# Altium footprint library Imperial_Thru_Hole.PcbLib: 76 footprints (part 2 of 5)
Each footprint in its own frame and in the unit in brackets; x right, y up, seen from the top. Pads: shape width x height; smd on the part's side, far side on the other; paste and mask are expansions set on the pad; w line width, h text height; cw(c..) or ccw(c..) is an arc to the next point about the centre after c.
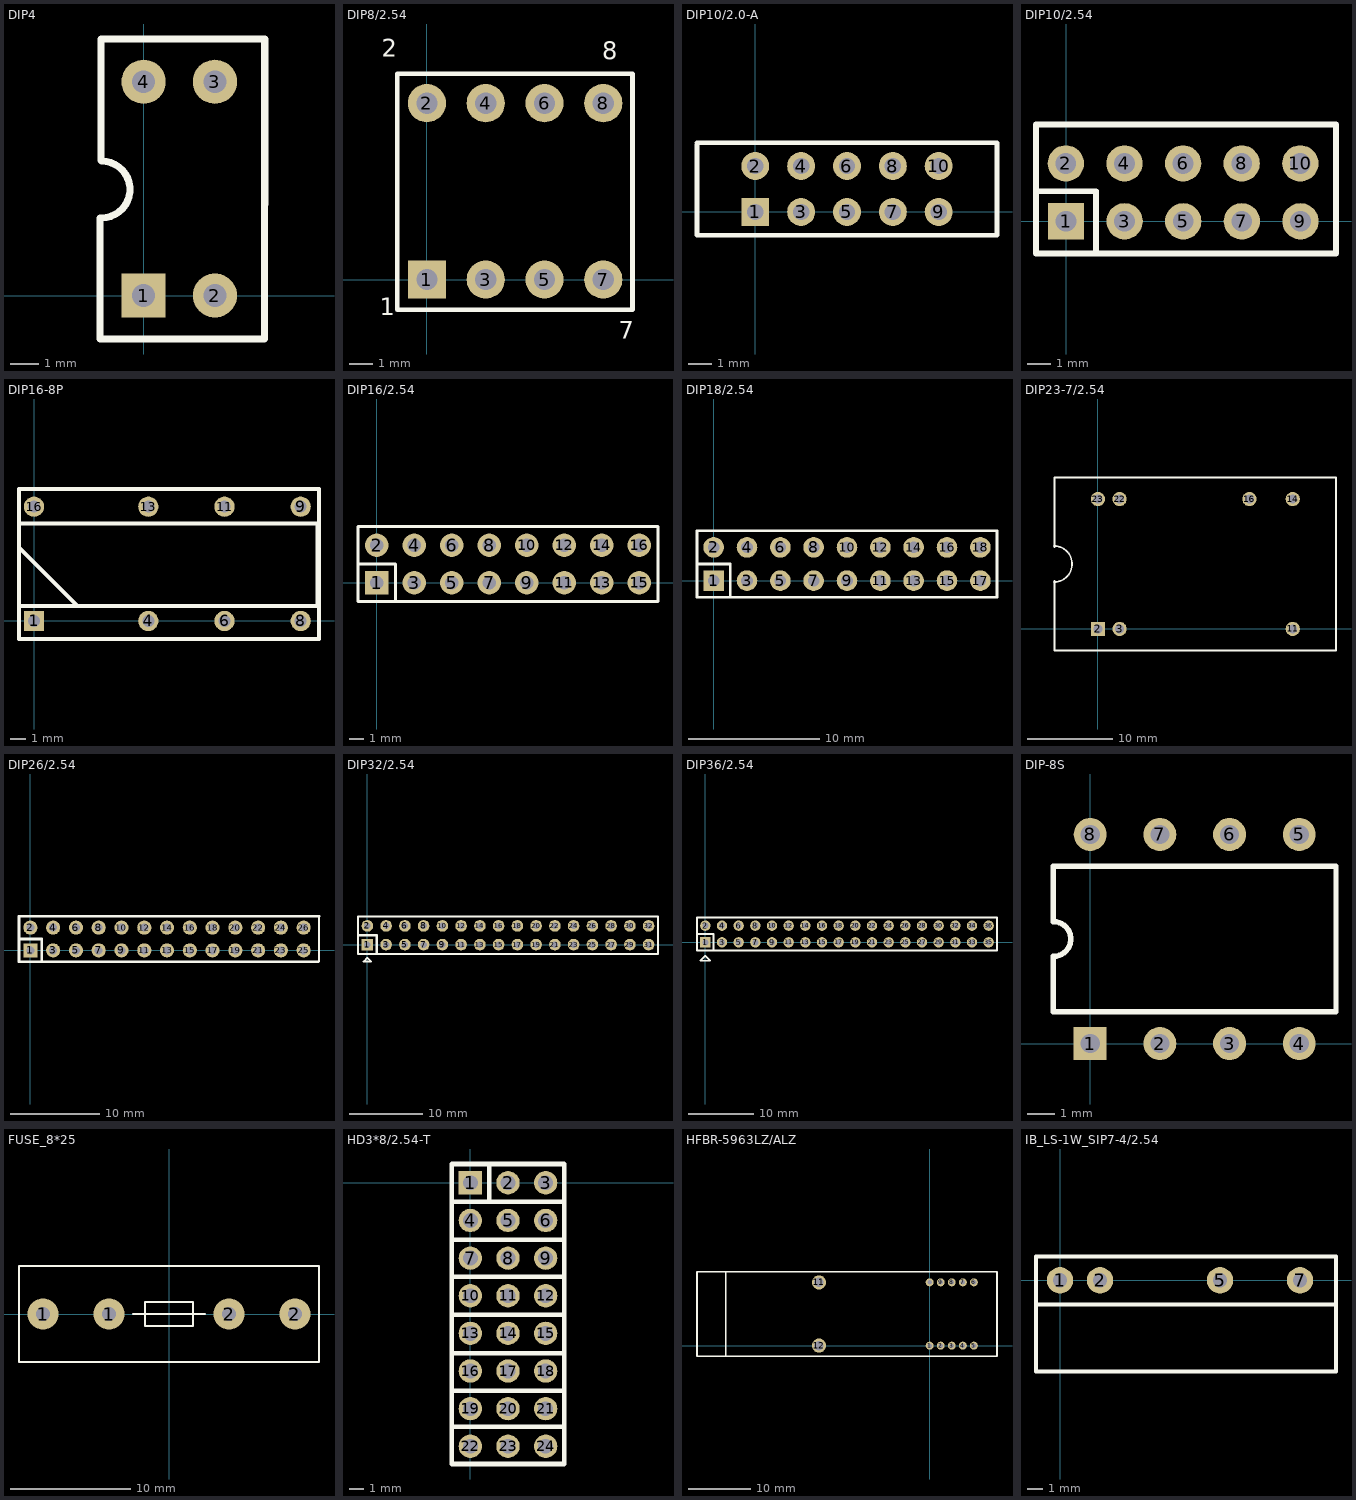
[diagram p1: the footprints below, top view; thin cyan lines are the x and y axes]

## DIP4 [mil]
height 200
pads (4):
  rect 62x62 hole 32: 1(0,0)
  round 62 hole 32: 2(100,0) 3(100,300) 4(0,300)
Top Overlay:
  lines w10: -61,109 -61,-61 169.59,-61 169.59,128.41 170,128 170,360 -60,360 -60,189.7 ; -59,109 ccw(c-59,148.85) -59,188.7

## DIP8/2.54 [mil]
pads (8):
  rect 65x65 hole 36: 1(0,0)
  round 65 hole 36: 2(0,300) 3(100,0) 4(100,300) 5(200,0) 6(200,300) 7(300,0) 8(300,300)
Top Overlay:
  lines w7.87: -50.39,-51.57 -50.39,350 349.61,350 349.61,-51.57 -50.39,-51.57
  text "8" at 298.43,374.29 h30
  text "7" at 325.98,-101.1 h30
  text "1" at -80.16,-60.83 h30
  text "2" at -77.2,379.13 h30

## DIP10/2.0-A [mil]
pads (10):
  rect 48x48 hole 28: 1(0,0)
  round 47.99 hole 27.99: 2(0,78.74)
  round 48 hole 28: 3(78.74,0) 4(78.74,78.74) 5(157.48,0) 6(157.48,78.74) 7(236.22,0) 8(236.22,78.74) 9(314.96,0) 10(314.96,78.74)
Top Overlay:
  lines w8: -100,115 -100,-40 414.96,-40 ; -100,118.74 415,118.74 415,-40
3D body: height 209.5, standoff -209.5, extent -100,-40 415,118.74

## DIP10/2.54 [mil] "2.54间距插针, 焊盘:外径1.57mm.孔径0.9mm"
height 314.96
pads (10):
  rect 62x62 hole 35.43: 1(0,0)
  round 62 hole 35.43: 2(-0.25,98.75) 3(100,0) 4(99.75,98.75) 5(200,0) 6(199.75,98.75) 7(300,0) 8(299.75,98.75) 9(400,0) 10(399.75,98.75)
Top Overlay:
  lines w10: -51.18,51.18 51.18,51.18 51.18,-55.12 ; -51.18,-55.12 -51.18,165.35 460.63,165.35 460.63,-55.12 -51.18,-55.12
3D body: height 220, standoff 20, extent -9.92,90.02 10,109.98
3D body: height 40, standoff 0, extent -50,50 49.61,149.8
3D body: height 40, standoff 0, extent 50,50 149.61,149.8
3D body: height 220, standoff 20, extent 90.08,90.02 110,109.98
3D body: height 40, standoff 0, extent 150,50 249.61,149.8
3D body: height 220, standoff 20, extent 190.08,90.02 210,109.98
3D body: height 40, standoff 0, extent 250,50 349.61,149.8
3D body: height 220, standoff 20, extent 290.08,90.02 310,109.98
3D body: height 40, standoff 0, extent 350,50 449.61,149.8
3D body: height 220, standoff 20, extent 390.08,90.02 410,109.98
3D body: height 40, standoff 0, extent 350,-50 449.61,49.8
3D body: height 220, standoff 20, extent 390.08,-9.98 410,9.98
3D body: height 40, standoff 0, extent 250,-50 349.61,49.8
3D body: height 220, standoff 20, extent 290.08,-9.98 310,9.98
3D body: height 40, standoff 0, extent 150,-50 249.61,49.8
3D body: height 220, standoff 20, extent 190.08,-9.98 210,9.98
3D body: height 40, standoff 0, extent 50,-50 149.61,49.8
3D body: height 220, standoff 20, extent 90.08,-9.98 110,9.98
3D body: height 40, standoff 0, extent -50,-50 49.61,49.8
3D body: height 220, standoff 20, extent -9.92,-9.98 10,9.98

## DIP16-8P [mm] "DIP16，8脚欧姆龙继电器"
height 5.08
pads (8):
  rect 1.35x1.35 hole 0.8: 1(0,0)
  round 1.35 hole 0.8: 4(7.62,0) 6(12.7,0) 8(17.78,0) 9(17.78,7.62) 11(12.7,7.62) 13(7.62,7.62) 16(0,7.62)
Top Overlay:
  lines w0.254: -1,4.9 2.9,1 ; -1,-1.2 -1,8.8 19,8.8 19,-1.2 -1,-1.2 ; -1,1 18.9,1 18.9,6.5 -1,6.5 -1,1

## DIP16/2.54 [mil] "2.54间距插针, 焊盘:外径1.57mm.孔径0.9mm"
height 314.96
pads (16):
  rect 62x62 hole 35.43: 1(0,0)
  round 62 hole 35.43: 2(0,100) 3(100,0) 4(100,100) 5(200,0) 6(200,100) 7(300,0) 8(300,100) 9(400,0) 10(400,100) 11(500,0) 12(500,100) 13(600,0) 14(600,100) 15(700,0) 16(700,100)
Top Overlay:
  lines w7.87: -50,50 50,50 50,-50 ; -50,-50 -50,150 750,150 750,-50 -50,-50
3D body: height 40, standoff 0, extent -50,50 49.61,149.8
3D body: height 220, standoff 20, extent -9.92,90.02 10,109.98
3D body: height 40, standoff 0, extent -50,-50 49.61,49.8
3D body: height 220, standoff 20, extent -9.92,-9.98 10,9.98
3D body: height 40, standoff 0, extent 50,50 149.61,149.8
3D body: height 220, standoff 20, extent 90.08,90.02 110,109.98
3D body: height 40, standoff 0, extent 50,-50 149.61,49.8
3D body: height 220, standoff 20, extent 90.08,-9.98 110,9.98
3D body: height 40, standoff 0, extent 150,50 249.61,149.8
3D body: height 220, standoff 20, extent 190.08,90.02 210,109.98
3D body: height 40, standoff 0, extent 150,-50 249.61,49.8
3D body: height 220, standoff 20, extent 190.08,-9.98 210,9.98
3D body: height 40, standoff 0, extent 250,50 349.61,149.8
3D body: height 220, standoff 20, extent 290.08,90.02 310,109.98
3D body: height 40, standoff 0, extent 250,-50 349.61,49.8
3D body: height 220, standoff 20, extent 290.08,-9.98 310,9.98
3D body: height 40, standoff 0, extent 350,50 449.61,149.8
3D body: height 220, standoff 20, extent 390.08,90.02 410,109.98
3D body: height 40, standoff 0, extent 350,-50 449.61,49.8
3D body: height 220, standoff 20, extent 390.08,-9.98 410,9.98
3D body: height 40, standoff 0, extent 450,50 549.61,149.8
3D body: height 220, standoff 20, extent 490.08,90.02 510,109.98
3D body: height 40, standoff 0, extent 450,-50 549.61,49.8
3D body: height 220, standoff 20, extent 490.08,-9.98 510,9.98
3D body: height 40, standoff 0, extent 550,50 649.61,149.8
3D body: height 220, standoff 20, extent 590.08,90.02 610,109.98
3D body: height 40, standoff 0, extent 550,-50 649.61,49.8
3D body: height 220, standoff 20, extent 590.08,-9.98 610,9.98
3D body: height 40, standoff 0, extent 650,50 749.61,149.8
3D body: height 220, standoff 20, extent 690.08,90.02 710,109.98
3D body: height 40, standoff 0, extent 650,-50 749.61,49.8
3D body: height 220, standoff 20, extent 690.08,-9.98 710,9.98

## DIP18/2.54 [mil] "2.54间距插针, 焊盘:外径1.57mm.孔径0.9mm"
height 314.96
pads (18):
  rect 62x62 hole 35.43: 1(0,0)
  round 62 hole 35.43: 2(0,100) 3(100,0) 4(100,100) 5(200,0) 6(200,100) 7(300,0) 8(300,100) 9(400,0) 10(400,100) 11(500,0) 12(500,100) 13(600,0) 14(600,100) 15(700,0) 16(700,100) 17(800,0) 18(800,100)
Top Overlay:
  lines w7.87: -50,50 50,50 50,-50 ; -50,-50 850,-50 850,150 -50,150 -50,-50
3D body: height 220, standoff 20, extent 690.08,-9.98 710,9.98
3D body: height 40, standoff 0, extent 650,-50 749.61,49.8
3D body: height 220, standoff 20, extent 690.08,90.02 710,109.98
3D body: height 40, standoff 0, extent 650,50 749.61,149.8
3D body: height 220, standoff 20, extent 590.08,-9.98 610,9.98
3D body: height 40, standoff 0, extent 550,-50 649.61,49.8
3D body: height 220, standoff 20, extent 590.08,90.02 610,109.98
3D body: height 40, standoff 0, extent 550,50 649.61,149.8
3D body: height 220, standoff 20, extent 490.08,-9.98 510,9.98
3D body: height 40, standoff 0, extent 450,-50 549.61,49.8
3D body: height 220, standoff 20, extent 490.08,90.02 510,109.98
3D body: height 40, standoff 0, extent 450,50 549.61,149.8
3D body: height 220, standoff 20, extent 390.08,-9.98 410,9.98
3D body: height 40, standoff 0, extent 350,-50 449.61,49.8
3D body: height 220, standoff 20, extent 390.08,90.02 410,109.98
3D body: height 40, standoff 0, extent 350,50 449.61,149.8
3D body: height 220, standoff 20, extent 290.08,-9.98 310,9.98
3D body: height 40, standoff 0, extent 250,-50 349.61,49.8
3D body: height 220, standoff 20, extent 290.08,90.02 310,109.98
3D body: height 40, standoff 0, extent 250,50 349.61,149.8
3D body: height 220, standoff 20, extent 190.08,-9.98 210,9.98
3D body: height 40, standoff 0, extent 150,-50 249.61,49.8
3D body: height 220, standoff 20, extent 190.08,90.02 210,109.98
3D body: height 40, standoff 0, extent 150,50 249.61,149.8
3D body: height 220, standoff 20, extent 90.08,-9.98 110,9.98
3D body: height 40, standoff 0, extent 50,-50 149.61,49.8
3D body: height 220, standoff 20, extent 90.08,90.02 110,109.98
3D body: height 40, standoff 0, extent 50,50 149.61,149.8
3D body: height 220, standoff 20, extent -9.92,-9.98 10,9.98
3D body: height 40, standoff 0, extent -50,-50 49.61,49.8
3D body: height 220, standoff 20, extent -9.92,90.02 10,109.98
3D body: height 40, standoff 0, extent -50,50 49.61,149.8
3D body: height 40, standoff 0, extent 750,50 849.61,149.8
3D body: height 220, standoff 20, extent 790.08,90.02 810,109.98
3D body: height 40, standoff 0, extent 750,-50 849.61,49.8
3D body: height 220, standoff 20, extent 790.08,-9.98 810,9.98

## DIP23-7/2.54 [mil] "DIP23-7针型，用于金升阳模块"
height 400
pads (7):
  rect 66x66 hole 40: 2(0,0)
  round 66 hole 40: 3(100,0) 11(900,0) 14(900,600) 16(700,600) 22(100,600) 23(0,600)
Top Overlay:
  lines w7.87: -202.76,216.64 ccw(c-202.76,300) -202.76,383.36
  lines w10: -200,220 -200,-100 0,-100 1100,-100 1100,700 -200,700 -200,380
3D body: height 426, standoff 0, extent 20,160 340,230
3D body: height 426, standoff 0, extent 20,400 690,520
3D body: height 425, standoff 0, extent -200,-100 1100,700

## DIP26/2.54 [mil] "2.54间距插针, 焊盘:外径1.57mm.孔径0.9mm"
height 196.85
pads (26):
  rect 62x62 hole 35.43: 1(0,0)
  round 62 hole 35.43: 2(0,100) 3(100,0) 4(100,100) 5(200,0) 6(200,100) 7(300,0) 8(300,100) 9(400,0) 10(400,100) 11(500,0) 12(500,100) 13(600,0) 14(600,100) 15(700,0) 16(700,100) 17(800,0) 18(800,100) 19(900,0) 20(900,100) 21(1000,0) 22(1000,100) 23(1100,0) 24(1100,100) 25(1200,0) 26(1200,100)
Top Overlay:
  lines w10: 1263.78,-50 1267.32,-46.46 1267.32,150
  lines w12: -50,50 50,50 50,-50 ; 1263.78,-50 -50,-50 -50,150 1267.32,150

## DIP32/2.54 [mil] "2.54间距插针, 焊盘:外径1.57mm.孔径0.9mm"
height 400
pads (32):
  rect 62x62 hole 35.43: 1(0,0)
  round 62 hole 35.43: 2(0,100) 3(100,0) 4(100,100) 5(200,0) 6(200,100) 7(300,0) 8(300,100) 9(400,0) 10(400,100) 11(500,0) 12(500,100) 13(600,0) 14(600,100) 15(700,0) 16(700,100) 17(800,0) 18(800,100) 19(900,0) 20(900,100) 21(1000,0) 22(1000,100) 23(1100,0) 24(1100,100) 25(1200,0) 26(1200,100) 27(1300,0) 28(1300,100) 29(1400,0) 30(1400,100) 31(1500,0) 32(1500,100)
Top Overlay:
  lines w10: -20,-90 20,-90 0,-70 -20,-90
  lines w12: -50,50 50,50 50,-50 ; -50,-50 -50,150 1550,150 1550,-50 -50,-50
3D body: height 340, standoff 20, extent -19.92,90.02 0,109.98
3D body: height 340, standoff 20, extent -19.92,-9.98 0,9.98
3D body: height 340, standoff 20, extent 80.08,90.02 100,109.98
3D body: height 340, standoff 20, extent 80.08,-9.98 100,9.98
3D body: height 340, standoff 20, extent 180.08,90.02 200,109.98
3D body: height 340, standoff 20, extent 180.08,-9.98 200,9.98
3D body: height 340, standoff 20, extent 280.08,90.02 300,109.98
3D body: height 340, standoff 20, extent 280.08,-9.98 300,9.98
3D body: height 340, standoff 20, extent 480.08,90.02 500,109.98
3D body: height 340, standoff 20, extent 480.08,-9.98 500,9.98
3D body: height 340, standoff 20, extent 580.08,-9.98 600,9.98
3D body: height 340, standoff 20, extent 580.08,90.02 600,109.98
3D body: height 340, standoff 20, extent 680.08,90.02 700,109.98
3D body: height 340, standoff 20, extent 680.08,-9.98 700,9.98
3D body: height 340, standoff 20, extent 780.08,90.02 800,109.98
3D body: height 340, standoff 20, extent 780.08,-9.98 800,9.98
3D body: height 340, standoff 20, extent 880.08,90.02 900,109.98
3D body: height 340, standoff 20, extent 880.08,-9.98 900,9.98
3D body: height 340, standoff 20, extent 980.08,90.02 1000,109.98
3D body: height 340, standoff 20, extent 980.08,-9.98 1000,9.98
3D body: height 340, standoff 20, extent 1080.08,90.02 1100,109.98
3D body: height 340, standoff 20, extent 1080.08,-9.98 1100,9.98
3D body: height 340, standoff 20, extent 1180.08,90.02 1200,109.98
3D body: height 340, standoff 20, extent 1180.08,-9.98 1200,9.98
3D body: height 340, standoff 20, extent 1280.08,90.02 1300,109.98
3D body: height 340, standoff 20, extent 1280.08,-9.98 1300,9.98
3D body: height 340, standoff 20, extent 1380.08,90.02 1400,109.98
3D body: height 340, standoff 20, extent 1380.08,-9.98 1400,9.98
3D body: height 340, standoff 20, extent 1480.08,90.02 1500,109.98
3D body: height 340, standoff 20, extent 1480.08,-9.98 1500,9.98
3D body: height 40, standoff 0, extent 51.26,-50 150.87,49.8
3D body: height 40, standoff 0, extent 51.26,50 150.87,149.8
3D body: height 40, standoff 0, extent -48.74,50 50.87,149.8
3D body: height 40, standoff 0, extent -48.74,-50 50.87,49.8
3D body: height 40, standoff 0, extent 151.26,50 250.87,149.8
3D body: height 40, standoff 0, extent 151.26,-50 250.87,49.8
3D body: height 40, standoff 0, extent 251.26,50 350.87,149.8
3D body: height 40, standoff 0, extent 251.26,-50 350.87,49.8
3D body: height 40, standoff 0, extent 451.26,50 550.87,149.8
3D body: height 40, standoff 0, extent 351.26,50 450.87,149.8
3D body: height 40, standoff 0, extent 351.26,-50 450.87,49.8
3D body: height 40, standoff 0, extent 451.26,-50 550.87,49.8
3D body: height 40, standoff 0, extent 551.26,50 650.87,149.8
3D body: height 40, standoff 0, extent 551.26,-50 650.87,49.8
3D body: height 340, standoff 20, extent 380.08,90.02 400,109.98
3D body: height 340, standoff 20, extent 380.08,-9.98 400,9.98
3D body: height 40, standoff 0, extent 651.26,50 750.87,149.8
3D body: height 40, standoff 0, extent 651.26,-50 750.87,49.8
3D body: height 40, standoff 0, extent 751.26,50 850.87,149.8
3D body: height 40, standoff 0, extent 751.26,-50 850.87,49.8
3D body: height 40, standoff 0, extent 851.26,50 950.87,149.8
3D body: height 40, standoff 0, extent 851.26,-50 950.87,49.8
3D body: height 40, standoff 0, extent 951.26,50 1050.87,149.8
3D body: height 40, standoff 0, extent 951.26,-50 1050.87,49.8
3D body: height 40, standoff 0, extent 1051.26,50 1150.87,149.8
3D body: height 40, standoff 0, extent 1051.26,-50 1150.87,49.8
3D body: height 40, standoff 0, extent 1151.26,50 1250.87,149.8
3D body: height 40, standoff 0, extent 1151.26,-50 1250.87,49.8
3D body: height 40, standoff 0, extent 1251.26,50 1350.87,149.8
3D body: height 40, standoff 0, extent 1251.26,-50 1350.87,49.8
3D body: height 40, standoff 0, extent 1351.26,50 1450.87,149.8
3D body: height 40, standoff 0, extent 1351.26,-50 1450.87,49.8
3D body: height 40, standoff 0, extent 1451.26,50 1550.87,149.8
3D body: height 40, standoff 0, extent 1451.26,-50 1550.87,49.8

## DIP36/2.54 [mil] "2.54间距插针, 焊盘:外径1.57mm.孔径0.9mm"
height 400
pads (36):
  rect 62x62 hole 35.43: 1(0,0)
  round 62 hole 35.43: 2(0,100) 3(100,0) 4(100,100) 5(200,0) 6(200,100) 7(300,0) 8(300,100) 9(400,0) 10(400,100) 11(500,0) 12(500,100) 13(600,0) 14(600,100) 15(700,0) 16(700,100) 17(800,0) 18(800,100) 19(900,0) 20(900,100) 21(1000,0) 22(1000,100) 23(1100,0) 24(1100,100) 25(1200,0) 26(1200,100) 27(1300,0) 28(1300,100) 29(1400,0) 30(1400,100) 31(1500,0) 32(1500,100) 33(1600,0) 34(1600,100) 35(1700,0) 36(1700,100)
Top Overlay:
  lines w10: -30,-110 0,-80 30,-110 -30,-110
  lines w12: -50,50 50,50 50,-50 ; -50,-50 -50,150 1750,150 1750,-50 -50,-50
3D body: height 340, standoff 20, extent -19.92,90.02 0,109.98
3D body: height 340, standoff 20, extent -19.92,-9.98 0,9.98
3D body: height 340, standoff 20, extent 80.08,90.02 100,109.98
3D body: height 340, standoff 20, extent 80.08,-9.98 100,9.98
3D body: height 340, standoff 20, extent 180.08,90.02 200,109.98
3D body: height 340, standoff 20, extent 180.08,-9.98 200,9.98
3D body: height 340, standoff 20, extent 280.08,90.02 300,109.98
3D body: height 340, standoff 20, extent 280.08,-9.98 300,9.98
3D body: height 340, standoff 20, extent 480.08,90.02 500,109.98
3D body: height 340, standoff 20, extent 480.08,-9.98 500,9.98
3D body: height 340, standoff 20, extent 580.08,-9.98 600,9.98
3D body: height 340, standoff 20, extent 580.08,90.02 600,109.98
3D body: height 340, standoff 20, extent 680.08,90.02 700,109.98
3D body: height 340, standoff 20, extent 680.08,-9.98 700,9.98
3D body: height 340, standoff 20, extent 780.08,90.02 800,109.98
3D body: height 340, standoff 20, extent 780.08,-9.98 800,9.98
3D body: height 340, standoff 20, extent 880.08,90.02 900,109.98
3D body: height 340, standoff 20, extent 880.08,-9.98 900,9.98
3D body: height 340, standoff 20, extent 980.08,90.02 1000,109.98
3D body: height 340, standoff 20, extent 980.08,-9.98 1000,9.98
3D body: height 340, standoff 20, extent 1080.08,90.02 1100,109.98
3D body: height 340, standoff 20, extent 1080.08,-9.98 1100,9.98
3D body: height 340, standoff 20, extent 1180.08,90.02 1200,109.98
3D body: height 340, standoff 20, extent 1180.08,-9.98 1200,9.98
3D body: height 340, standoff 20, extent 1280.08,90.02 1300,109.98
3D body: height 340, standoff 20, extent 1280.08,-9.98 1300,9.98
3D body: height 340, standoff 20, extent 1380.08,90.02 1400,109.98
3D body: height 340, standoff 20, extent 1380.08,-9.98 1400,9.98
3D body: height 340, standoff 20, extent 1480.08,90.02 1500,109.98
3D body: height 340, standoff 20, extent 1480.08,-9.98 1500,9.98
3D body: height 40, standoff 0, extent 51.26,-50 150.87,49.8
3D body: height 40, standoff 0, extent 51.26,50 150.87,149.8
3D body: height 40, standoff 0, extent -48.74,50 50.87,149.8
3D body: height 40, standoff 0, extent -48.74,-50 50.87,49.8
3D body: height 40, standoff 0, extent 151.26,50 250.87,149.8
3D body: height 40, standoff 0, extent 151.26,-50 250.87,49.8
3D body: height 40, standoff 0, extent 251.26,50 350.87,149.8
3D body: height 40, standoff 0, extent 251.26,-50 350.87,49.8
3D body: height 40, standoff 0, extent 451.26,50 550.87,149.8
3D body: height 40, standoff 0, extent 351.26,50 450.87,149.8
3D body: height 40, standoff 0, extent 351.26,-50 450.87,49.8
3D body: height 40, standoff 0, extent 451.26,-50 550.87,49.8
3D body: height 40, standoff 0, extent 551.26,50 650.87,149.8
3D body: height 40, standoff 0, extent 551.26,-50 650.87,49.8
3D body: height 340, standoff 20, extent 380.08,90.02 400,109.98
3D body: height 340, standoff 20, extent 380.08,-9.98 400,9.98
3D body: height 40, standoff 0, extent 651.26,50 750.87,149.8
3D body: height 40, standoff 0, extent 651.26,-50 750.87,49.8
3D body: height 40, standoff 0, extent 751.26,50 850.87,149.8
3D body: height 40, standoff 0, extent 751.26,-50 850.87,49.8
3D body: height 40, standoff 0, extent 851.26,50 950.87,149.8
3D body: height 40, standoff 0, extent 851.26,-50 950.87,49.8
3D body: height 40, standoff 0, extent 951.26,50 1050.87,149.8
3D body: height 40, standoff 0, extent 951.26,-50 1050.87,49.8
3D body: height 40, standoff 0, extent 1051.26,50 1150.87,149.8
3D body: height 40, standoff 0, extent 1051.26,-50 1150.87,49.8
3D body: height 40, standoff 0, extent 1151.26,50 1250.87,149.8
3D body: height 40, standoff 0, extent 1151.26,-50 1250.87,49.8
3D body: height 40, standoff 0, extent 1251.26,50 1350.87,149.8
3D body: height 40, standoff 0, extent 1251.26,-50 1350.87,49.8
3D body: height 40, standoff 0, extent 1351.26,50 1450.87,149.8
3D body: height 40, standoff 0, extent 1351.26,-50 1450.87,49.8
3D body: height 40, standoff 0, extent 1451.26,50 1550.87,149.8
3D body: height 40, standoff 0, extent 1451.26,-50 1550.87,49.8
3D body: height 340, standoff 20, extent 1580.08,90.02 1600,109.98
3D body: height 340, standoff 20, extent 1580.08,-9.98 1600,9.98
3D body: height 340, standoff 20, extent 1680.08,90.02 1700,109.98
3D body: height 340, standoff 20, extent 1680.08,-9.98 1700,9.98
3D body: height 40, standoff 0, extent 1551.26,50 1650.87,149.8
3D body: height 40, standoff 0, extent 1551.26,-50 1650.87,49.8
3D body: height 40, standoff 0, extent 1651.26,50 1750.87,149.8
3D body: height 40, standoff 0, extent 1651.26,-50 1750.87,49.8

## DIP-8S [mm] "DIP8小孔型"
height 5.08
pads (8):
  rect 1.2x1.2 hole 0.7: 1(0,0)
  round 1.2 hole 0.7: 2(2.54,0) 3(5.08,0) 4(7.62,0) 5(7.62,7.62) 6(5.08,7.62) 7(2.54,7.62) 8(0,7.62)
Top Overlay:
  lines w0.2: -1.34,1.16 8.96,1.16 8.96,6.46 -1.34,6.46 -1.34,4.445 cw(c-1.34,3.81) -1.34,3.175 -1.34,1.16
3D body: height 1.27, standoff 0.89, extent -0.254,6.604 0.254,7.62
3D body: height 1.27, standoff 0, extent -0.254,7.366 0.254,7.874
3D body: height 1.27, standoff 0.89, extent 2.286,6.604 2.794,7.62
3D body: height 1.27, standoff 0, extent 2.286,7.366 2.794,7.874
3D body: height 1.27, standoff 0.89, extent 4.826,6.604 5.334,7.62
3D body: height 1.27, standoff 0, extent 4.826,7.366 5.334,7.874
3D body: height 1.27, standoff 0.89, extent 7.366,6.604 7.874,7.62
3D body: height 1.27, standoff 0, extent 7.366,7.366 7.874,7.874
3D body: height 1.27, standoff 0.89, extent 7.366,0 7.874,1.016
3D body: height 1.27, standoff 0, extent 7.366,-0.254 7.874,0.254
3D body: height 1.27, standoff 0.89, extent 4.826,0 5.334,1.016
3D body: height 1.27, standoff 0, extent 4.826,-0.254 5.334,0.254
3D body: height 1.27, standoff 0.89, extent 2.286,0 2.794,1.016
3D body: height 1.27, standoff 0, extent 2.286,-0.254 2.794,0.254
3D body: height 1.27, standoff 0, extent -0.254,-0.254 0.254,0.254
3D body: height 1.27, standoff 0.89, extent -0.254,0 0.254,1.016
3D body: height 2.03, standoff 0, extent -1.27,1.016 9.144,6.604

## FUSE_8*25 [mm] "8x25保险管底座"
height 7
pads (4):
  round 2.6 hole 1.2: 1(-10.5,0) 1(-5,0) 2(5,0) 2(10.5,0)
Top Overlay:
  lines w0.2: -3,0 3,0 ; -12.5,-4 -12.5,4 12.5,4 12.5,-4 -12.5,-4 ; -2,-1 -2,1 2,1 2,-1 -2,-1

## HD3*8/2.54-T [mil]
pads (24):
  rect 62x62 hole 39.37: 1(0,0)
  round 62 hole 39.37: 2(100,0) 3(200,0) 4(0,-100) 5(100,-100) 6(200,-100) 7(0,-200) 8(100,-200) 9(200,-200) 10(0,-300) 11(100,-300) 12(200,-300) 13(0,-400) 14(100,-400) 15(200,-400) 16(0,-500) 17(100,-500) 18(200,-500) 19(0,-600) 20(100,-600) 21(200,-600) 22(0,-700) 23(100,-700) 24(200,-700)
Top Overlay:
  lines w12: -50,-648 249,-648 ; -50,-553 248,-553 ; -50,-453 249,-453 ; -50,-351 248,-351 ; -50,-249 248,-249 ; -50,-151 250,-151 ; 249,-747 -50,-747 -50,50 ; 250,-747 250,50 ; -50,-50 -50,50 ; -50,-50 50,-50 ; -50,-50 250,-50 250,50 ; -50,50 250,50 ; -50,50 250,50 ; 50,-50 50,50 50,-50

## HFBR-5963LZ/ALZ [mil] "pitch=70mil"
height 385.83
pads (12):
  round 50 hole 30: 1(0,0) 2(70,0) 3(140,0) 4(210,0) 5(280,0) 6(280,400) 7(210,400) 8(140,400) 9(70,400) 10(0,400)
  round 90 hole 60: 11(-700,400) 12(-700,0)
Top Overlay:
  lines w10: -1290,-67.72 -1290,467.72 ; 425.98,467.32 425.98,-67.72 -1471.26,-67.72 -1471.26,467.72 425.98,467.72
3D body: height 360, standoff 10, extent -1470,-67.72 425.98,467.72

## IB_LS-1W_SIP7-4/2.54 [mil] "隔离DCDC:IB0505LS-1W 封装"
height 400
pads (4):
  round 65.98 hole 35.98: 1(0,0)
  round 66 hole 36: 2(100,0) 5(400,0) 7(600,0)
Top Overlay:
  lines w10: -60,-60 690,-60 ; -60,-228.35 690,-228.35 690,60 -60,60 -60,-228.35
3D body: height 390, standoff 1, extent -50,-220 680,50
3D body: height 320, standoff 280, extent 10,-230 470,-190